# Altium footprint library AmbiqPhoenix.PcbLib: 27 footprints (part 1 of 2)
Each footprint in its own frame and in the unit in brackets; x right, y up, seen from the top. Pads: shape width x height; smd on the part's side, far side on the other; paste and mask are expansions set on the pad; w line width, h text height; cw(c..) or ccw(c..) is an arc to the next point about the centre after c.
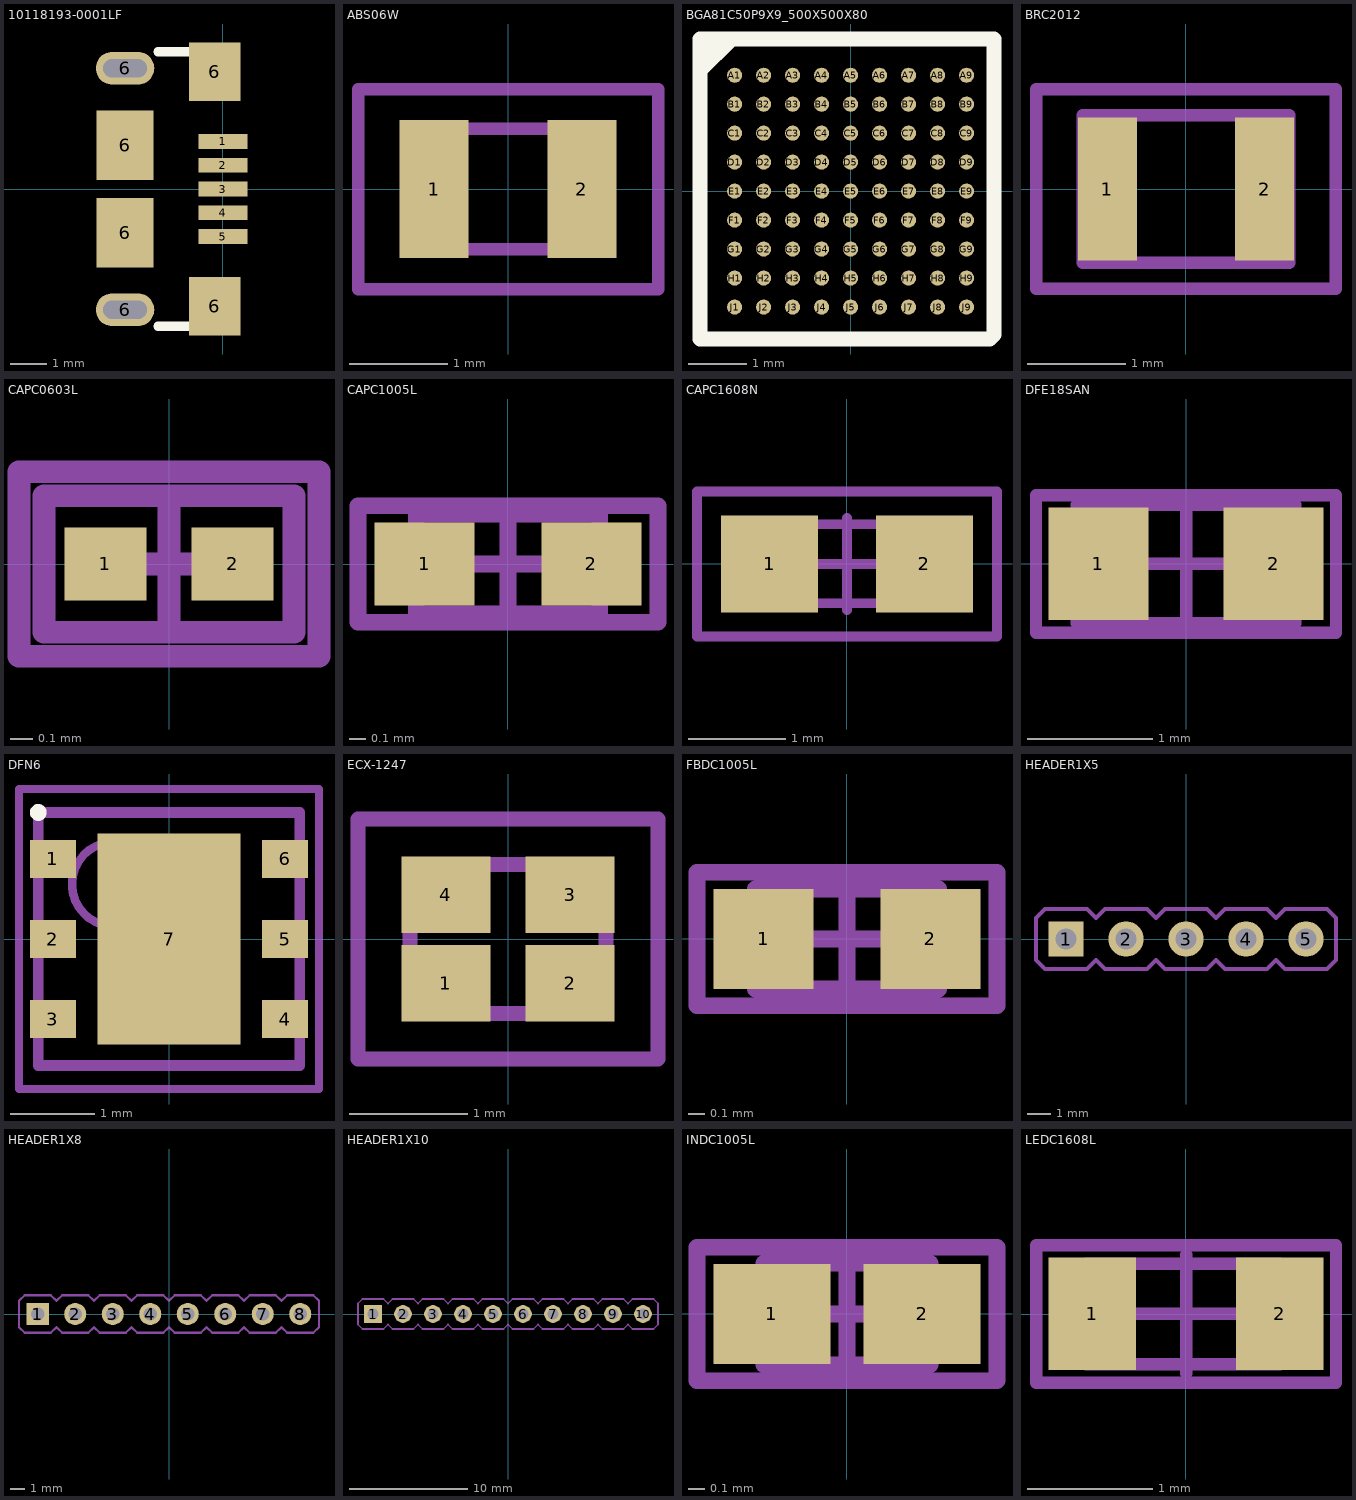
[diagram p0: the footprints below, top view; thin cyan lines are the x and y axes]

## 10118193-0001LF [mm]
height 3
pads (11):
  rect 1.35x0.4 smd: 1(0,1.3) 2(0,0.65) 3(0,0) 4(0,-0.65) 5(0,-1.3)
  oval 1.6x0.9 hole 0.5 slot 1.2 at 0 deg: 6(-2.675,-3.3) 6(-2.675,3.3)
  rect 1.55x1.9 smd: 6(-2.675,-1.2) 6(-2.675,1.2)
  rect 1.4x1.6 smd: 6(-0.225,-3.2) 6(-0.225,3.2)
Top Overlay:
  lines w0.254: -1.775,-3.75 0.25,-3.75 0.25,-3.275 ; -1.775,3.75 0.25,3.75 0.25,3.275
3D body "10118193-0001lfc.stp": height 2.88, standoff -0.72, extent -5.4,-3.928 0.26,3.928

## ABS06W [mm]
height 0.6
pads (2):
  rect 0.7x1.4 smd: 1(-0.75,0) 2(0.75,0)
Mechanical 13:
  lines w0.127: -1,-0.61 1,-0.61 1,0.61 -1,0.61 -1,-0.61
Mechanical 15:
  lines w0.127: -1.524,-1.016 1.524,-1.016 1.524,1.016 -1.524,1.016 -1.524,-1.016
3D body "User Library-ABS06.STEP": height 0.6, standoff 0, extent -1,-0.61 1,0.61

## BGA81C50P9X9_500X500X80 [mm]
height 0.8
pads (81):
  round 0.26 smd mask+0.01: A1(-2,2) A2(-1.5,2) A3(-1,2) A4(-0.5,2) A5(0,2) A6(0.5,2) A7(1,2) A8(1.5,2) A9(2,2) B1(-2,1.5) B2(-1.5,1.5) B3(-1,1.5) B4(-0.5,1.5) B5(0,1.5) B6(0.5,1.5) B7(1,1.5) B8(1.5,1.5) B9(2,1.5) C1(-2,1) C2(-1.5,1) C3(-1,1) C4(-0.5,1) C5(0,1) C6(0.5,1) C7(1,1) C8(1.5,1) C9(2,1) D1(-2,0.5) D2(-1.5,0.5) D3(-1,0.5) D4(-0.5,0.5) D5(0,0.5) D6(0.5,0.5) D7(1,0.5) D8(1.5,0.5) D9(2,0.5) E1(-2,0) E2(-1.5,0) E3(-1,0) E4(-0.5,0) E5(0,0) E6(0.5,0) E7(1,0) E8(1.5,0) E9(2,0) F1(-2,-0.5) F2(-1.5,-0.5) F3(-1,-0.5) F4(-0.5,-0.5) F5(0,-0.5) F6(0.5,-0.5) F7(1,-0.5) F8(1.5,-0.5) F9(2,-0.5) G1(-2,-1) G2(-1.5,-1) G3(-1,-1) G4(-0.5,-1) G5(0,-1) G6(0.5,-1) G7(1,-1) G8(1.5,-1) G9(2,-1) H1(-2,-1.5) H2(-1.5,-1.5) H3(-1,-1.5) H4(-0.5,-1.5) H5(0,-1.5) H6(0.5,-1.5) H7(1,-1.5) H8(1.5,-1.5) H9(2,-1.5) J1(-2,-2) J2(-1.5,-2) J3(-1,-2) J4(-0.5,-2) J5(0,-2) J6(0.5,-2) J7(1,-2) J8(1.5,-2) J9(2,-2)
Top Overlay:
  lines w0.254: -2.375,2.475 -2.2,2.475 -2.05,2.625 ; -2.6,2.075 -2.05,2.625 ; -2.6,2.075 -2.6,2.625 -2.05,2.625 ; -2.6,2.075 -2.6,-2.55 2.4,-2.55 2.475,-2.475 2.475,2.625 -2.05,2.625 ; -2.05,2.625 -2.05,2.625
3D body: height 0.8, standoff 0.5, extent -2.5,-2.5 2.5,2.5

## BRC2012 [mm]
pads (2):
  rect 0.6x1.45 smd: 1(-0.8,0) 2(0.8,0)
Mechanical 13:
  lines w0.127: -1.05,-0.75 1.05,-0.75 1.05,0.75 -1.05,0.75 -1.05,-0.75
Mechanical 15:
  lines w0.127: -1.524,-1.016 1.524,-1.016 1.524,1.016 -1.524,1.016 -1.524,-1.016
3D body "User Library-LQW2BHN.STEP": height 1.7, standoff 0, extent -1.05,-0.75 1.05,0.75

## CAPC0603L [mm] "Chip Capacitor, Body 1.0x0.5mm, IPC High Density"
height 0.35
pads (2):
  rect 0.36x0.32 smd mask+0.102: 1(-0.28,0)
  rect 0.36x0.32 smd: 2(0.28,0)
Mechanical 13:
  lines w0.1: -0.55,-0.3 0.55,-0.3 0.55,0.3 -0.55,0.3 -0.55,-0.3
Mechanical 15:
  lines w0.1: -0.3,0 0.3,0 ; 0,-0.3 0,0.3 ; -0.66,-0.406 0.66,-0.406 0.66,0.406 -0.66,0.406 -0.66,-0.406
3D body "C 0201.STEP": height 0.31, standoff -0.01, extent -0.3,-0.16 0.3,0.16

## CAPC1005L [mm] "Chip Capacitor, Body 1.0x0.5mm, IPC High Density"
height 0.6
pads (2):
  rect 0.6x0.5 smd: 1(-0.5,0) 2(0.5,0)
Mechanical 13:
  lines w0.1: -0.55,-0.3 -0.55,0.3 0.55,0.3 0.55,-0.3 -0.55,-0.3
Mechanical 15:
  lines w0.1: -0.3,0 0.3,0 ; 0,-0.3 0,0.3 ; -0.9,-0.35 -0.9,0.35 0.9,0.35 0.9,-0.35 -0.9,-0.35
3D body "C 0402.STEP": height 0.51, standoff -0.01, extent -0.5,-0.26 0.5,0.26

## CAPC1608N [mm] "Chip Capacitor, Body 1.6x0.8mm, IPC Medium Density"
height 0.85
pads (2):
  rect 1x1 smd: 1(-0.8,0) 2(0.8,0)
Mechanical 13:
  lines w0.1: -0.8,-0.406 0.813,-0.406 0.813,0.41 -0.8,0.41 -0.8,-0.406
Mechanical 15:
  lines w0.1: -0.475,0 0.475,0 ; 0,-0.475 0,0.475 ; -1.55,-0.75 1.55,-0.75 1.55,0.75 -1.55,0.75 -1.55,-0.75
3D body "C 0603.STEP": height 0.81, standoff -0.01, extent -0.8,-0.41 0.8,0.41

## DFE18SAN [mm]
pads (2):
  rect 0.8x0.9 smd: 1(-0.7,0) 2(0.7,0)
Mechanical 13:
  lines w0.1: -0.875,-0.475 -0.875,0.475 0.875,0.475 0.875,-0.475 -0.875,-0.475
Mechanical 15:
  lines w0.1: -0.475,0 0.475,0 ; 0,-0.475 0,0.475 ; -1.2,-0.55 -1.2,0.55 1.2,0.55 1.2,-0.55 -1.2,-0.55
3D body "0603.STEP": height 0.8, standoff 0, extent -0.8,-0.4 0.8,0.4

## DFN6 [mm] "3x3"
height 0.95
pads (7):
  rect 0.55x0.45 smd: 1(-1.375,0.95) 2(-1.375,0) 3(-1.375,-0.95) 4(1.375,-0.95) 5(1.375,0) 6(1.375,0.95)
  rect 1.7x2.5 smd: 7(0,0)
Top Overlay:
  circle w0.1: c-1.55,1.5 r0.05
Mechanical 13:
  lines w0.127: -1.55,-1.5 -1.55,1.5 1.55,1.5 1.55,-1.5 1.375,-1.5 -1.55,-1.5
Mechanical 15:
  circle w0.1: c-0.65,0.65 r0.5
  lines w0.1: -1.778,-1.778 -1.778,1.778 1.778,1.778 1.778,-1.778 -1.778,-1.778
3D body "User Library-dfn6_3x3_rm0_95.STEP": height 0.8, standoff 0, extent -1.55,-1.5 1.55,1.5

## ECX-1247 [mm]
height 0.71
pads (4):
  rect 0.75x0.65 smd: 1(-0.525,-0.375) 2(0.525,-0.375) 3(0.525,0.375) 4(-0.525,0.375)
Mechanical 13:
  lines w0.127: -0.83,-0.629 0.83,-0.629 0.83,0.63 -0.83,0.63 -0.83,-0.629
Mechanical 15:
  lines w0.127: -1.27,-1.016 -1.27,1.016 1.27,1.016 1.27,-1.016 -1.27,-1.016
3D body "User Library-NX1612SA.STEP": height 0.3, standoff 0, extent -0.8,-0.6 0.8,0.6

## FBDC1005L [mm] "Ferrite Bead, Body 1.1x0.5mm, IPC High Density"
height 0.4
pads (2):
  rect 0.6x0.6 smd: 1(-0.5,0) 2(0.5,0)
Mechanical 13:
  lines w0.1: -0.55,-0.3 0.55,-0.3 0.55,0.3 -0.55,0.3 -0.55,-0.3
Mechanical 15:
  lines w0.1: -0.3,0 0.3,0 ; 0,-0.3 0,0.3 ; -0.9,-0.4 0.9,-0.4 0.9,0.4 -0.9,0.4 -0.9,-0.4
3D body "User Library-FB_1005.STEP": height 0.5, standoff 0, extent -0.5,-0.25 0.5,0.25

## HEADER1X5 [mm]
pads (5):
  rect 1.5x1.5 hole 0.9: 1(-5.08,0)
  round 1.5 hole 0.9: 2(-2.54,0) 3(0,0) 4(2.54,0) 5(5.08,0)
Mechanical 13:
  lines w0.152: -3.175,1.27 -1.905,1.27 ; 4.445,1.27 5.715,1.27 ; -6.35,-0.889 -5.969,-1.27 -4.191,-1.27 -3.81,-0.889 -3.429,-1.27 -1.651,-1.27 -1.27,-0.889 -0.889,-1.27 0.889,-1.27 1.27,-0.889 1.651,-1.27 3.429,-1.27 3.81,-0.889 4.191,-1.27 5.969,-1.27 6.35,-0.889 6.35,0.889 5.969,1.27 4.191,1.27 3.81,0.889 3.429,1.27 1.651,1.27 1.27,0.889 0.889,1.27 -0.889,1.27 -1.27,0.889 -1.651,1.27 -3.429,1.27 -3.81,0.889 -4.191,1.27 -5.969,1.27 -6.35,0.889 -6.35,-0.889

## HEADER1X8 [mm]
pads (8):
  rect 1.5x1.5 hole 0.9: 1(-8.89,0)
  round 1.5 hole 0.9: 2(-6.35,0) 3(-3.81,0) 4(-1.27,0) 5(1.27,0) 6(3.81,0) 7(6.35,0) 8(8.89,0)
Mechanical 13:
  lines w0.152: -6.985,1.27 -5.715,1.27 ; 0.635,1.27 1.905,1.27 ; 8.255,1.27 9.525,1.27 ; -10.16,-0.889 -10.16,0.889 -9.779,1.27 -8.001,1.27 -7.62,0.889 -7.239,1.27 -5.461,1.27 -5.08,0.889 -4.699,1.27 -2.921,1.27 -2.54,0.889 -2.159,1.27 -0.381,1.27 0,0.889 0.381,1.27 2.159,1.27 2.54,0.889 2.921,1.27 4.699,1.27 5.08,0.889 5.461,1.27 7.239,1.27 7.62,0.889 8.001,1.27 9.779,1.27 10.16,0.889 10.16,-0.889 9.779,-1.27 8.001,-1.27 7.62,-0.889 7.239,-1.27 5.461,-1.27 5.08,-0.889 4.699,-1.27 2.921,-1.27 2.54,-0.889 2.159,-1.27 0.381,-1.27 0,-0.889 -0.381,-1.27 -2.159,-1.27 -2.54,-0.889 -2.921,-1.27 -4.699,-1.27 -5.08,-0.889 -5.461,-1.27 -7.239,-1.27 -7.62,-0.889 -8.001,-1.27 -9.779,-1.27 -10.16,-0.889
3D body "1001-8.STEP": height 8.54, standoff -3, extent -10.16,-1.27 10.16,1.27

## HEADER1X10 [mm]
pads (10):
  rect 1.5x1.5 hole 0.9: 1(-11.43,0)
  round 1.5 hole 0.9: 2(-8.89,0) 3(-6.35,0) 4(-3.81,0) 5(-1.27,0) 6(1.27,0) 7(3.81,0) 8(6.35,0) 9(8.89,0) 10(11.43,0)
Mechanical 13:
  lines w0.152: -9.525,1.27 -8.255,1.27 ; -1.905,1.27 -0.635,1.27 ; 5.715,1.27 6.985,1.27 ; -12.7,-0.889 -12.319,-1.27 -10.541,-1.27 -10.16,-0.889 -9.779,-1.27 -8.001,-1.27 -7.62,-0.889 -7.239,-1.27 -5.461,-1.27 -5.08,-0.889 -4.699,-1.27 -2.921,-1.27 -2.54,-0.889 -2.159,-1.27 -0.381,-1.27 0,-0.889 0.381,-1.27 2.159,-1.27 2.54,-0.889 2.921,-1.27 4.699,-1.27 5.08,-0.889 5.461,-1.27 7.239,-1.27 7.62,-0.889 8.001,-1.27 9.779,-1.27 10.16,-0.889 10.541,-1.27 12.319,-1.27 12.7,-0.889 12.7,0.889 12.319,1.27 10.541,1.27 10.16,0.889 9.779,1.27 8.001,1.27 7.62,0.889 7.239,1.27 5.461,1.27 5.08,0.889 4.699,1.27 2.921,1.27 2.54,0.889 2.159,1.27 0.381,1.27 0,0.889 -0.381,1.27 -2.159,1.27 -2.54,0.889 -2.921,1.27 -4.699,1.27 -5.08,0.889 -5.461,1.27 -7.239,1.27 -7.62,0.889 -8.001,1.27 -9.779,1.27 -10.16,0.889 -10.541,1.27 -12.319,1.27 -12.7,0.889 -12.7,-0.889
3D body "HDR1x10.STEP": height 8.54, standoff -3, extent -12.7,-1.27 12.7,1.27

## INDC1005L [mm] "Chip Inductor, Body 1.0x0.5mm, IPC High Density"
height 0.6
pads (2):
  rect 0.7x0.6 smd: 1(-0.45,0) 2(0.45,0)
Mechanical 13:
  lines w0.1: -0.5,-0.305 0.5,-0.305 0.5,0.305 -0.5,0.305 -0.5,-0.305
Mechanical 15:
  lines w0.1: -0.35,0 0.35,0 ; 0,-0.35 0,0.35 ; -0.9,-0.4 0.9,-0.4 0.9,0.4 -0.9,0.4 -0.9,-0.4
3D body "User Library-Chip InductorINDC1005X60N.STEP": height 0.5, standoff 0, extent -0.5,-0.298 0.5,0.302

## LEDC1608L [mm] "Chip LED, Body 1.6x0.8mm, IPC High Density"
height 0.6
pads (2):
  rect 0.7x0.9 smd: 1(-0.75,0) 2(0.75,0)
Mechanical 13:
  lines w0.1: -0.8,-0.401 -0.261,-0.401 0.261,-0.401 0.75,-0.401 0.75,0.401 -0.8,0.401 -0.8,-0.401
Mechanical 15:
  lines w0.1: -0.475,0 0.475,0 ; 0,-0.475 0,0.475 ; -1.2,-0.55 -1.2,0.55 1.2,0.55 1.2,-0.55 -1.2,-0.55
3D body "LED 0603-W.STEP": height 0.47, standoff 0, extent -0.8,-0.401 0.8,0.401
3D body "LED 0603玻璃罩.STEP": height 0.61, standoff 0.21, extent -0.599,-0.401 0.599,0.401